# EAGLE library part STM32F030C8T6 (library STM32F030C8T6)
STM32F Series 32-bit 64 kB Flash 8 kB RAM ARM Based Microcontroller - LQFP-48 Check availability <https://pricing.snapeda.com/parts/STM32F030C8T6/STMicroelectronics/view-part?ref=eda>
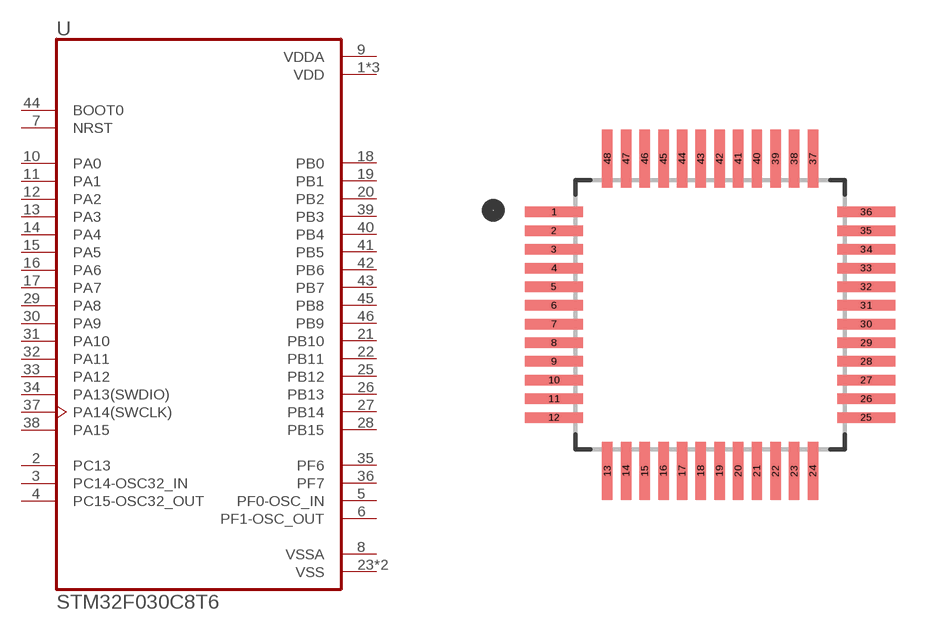
[diagram p0: symbol with the pads of QFP50P900X900X160-48N; footprint QFP50P900X900X160-48N]

Designator prefix U

## STM32F030C8T6 (Availability: In Stock; Description: ARM® Cortex®-M0 series Microcontroller IC 32-Bit Single-Core 48MHz 64KB (64K x 8) FLASH 48-LQFP (7x7); MF: STMicroelectronics; MP: STM32F030C8T6; Package: LQFP-48 STMicroelectronics; Price: None; Purchase-URL: https://pricing.snapeda.com/search/part/STM32F030C8T6/?ref=eda)  [QFP50P900X900X160-48N]
1  VDD  pwr
2  PC13
3  PC14-OSC32_IN
4  PC15-OSC32_OUT
5  PF0-OSC_IN
6  PF1-OSC_OUT
7  NRST
8  VSSA  pwr
9  VDDA  pwr
10  PA0
11  PA1
12  PA2
13  PA3
14  PA4
15  PA5
16  PA6
17  PA7
18  PB0
19  PB1
20  PB2
21  PB10
22  PB11
23  VSS  pwr
24  VDD  pwr
25  PB12
26  PB13
27  PB14
28  PB15
29  PA8
30  PA9
31  PA10
32  PA11
33  PA12
34  PA13(SWDIO)
35  PF6
36  PF7
37  PA14(SWCLK)
38  PA15
39  PB3
40  PB4
41  PB5
42  PB6
43  PB7
44  BOOT0  in
45  PB8
46  PB9
47  VSS  pwr
48  VDD  pwr

## Footprint QFP50P900X900X160-48N (pad centres in mm)
smd 1.56 x 0.28: 1 -4.18,2.75; 2 -4.18,2.25; 3 -4.18,1.75; 4 -4.18,1.25; 5 -4.18,0.75; 6 -4.18,0.25; 7 -4.18,-0.25; 8 -4.18,-0.75; 9 -4.18,-1.25; 10 -4.18,-1.75; 11 -4.18,-2.25; 12 -4.18,-2.75; 25 4.18,-2.75; 26 4.18,-2.25; 27 4.18,-1.75; 28 4.18,-1.25; 29 4.18,-0.75; 30 4.18,-0.25; 31 4.18,0.25; 32 4.18,0.75; 33 4.18,1.25; 34 4.18,1.75; 35 4.18,2.25; 36 4.18,2.75
smd 0.28 x 1.56: 13 -2.75,-4.18; 14 -2.25,-4.18; 15 -1.75,-4.18; 16 -1.25,-4.18; 17 -0.75,-4.18; 18 -0.25,-4.18; 19 0.25,-4.18; 20 0.75,-4.18; 21 1.25,-4.18; 22 1.75,-4.18; 23 2.25,-4.18; 24 2.75,-4.18; 37 2.75,4.18; 38 2.25,4.18; 39 1.75,4.18; 40 1.25,4.18; 41 0.75,4.18; 42 0.25,4.18; 43 -0.25,4.18; 44 -0.75,4.18; 45 -1.25,4.18; 46 -1.75,4.18; 47 -2.25,4.18; 48 -2.75,4.18